# EAGLE library part 74*4040 (library 74xx-us)
IC 12STG BINARY COUNTER
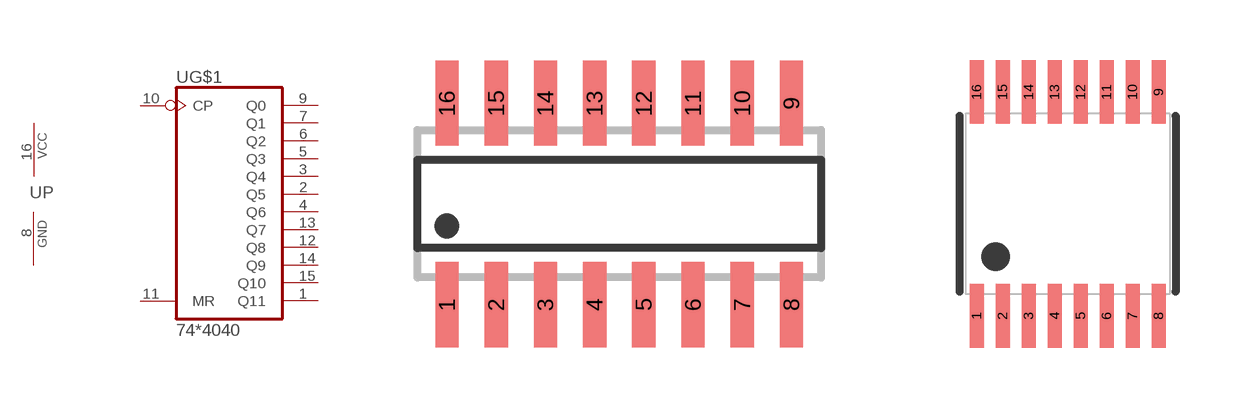
[diagram p330: symbol with the pads of SO16; footprints SO16, TSSOP16]

Designator prefix U; gates P=PWRN G$1=744040

## 744040D, 74HC4040D, 74HCT4040D  [SO16]
1  G$1:Q11  out
2  G$1:Q5  out
3  G$1:Q4  out
4  G$1:Q6  out
5  G$1:Q3  out
6  G$1:Q2  out
7  G$1:Q1  out
8  P:GND  pwr
9  G$1:Q0  out
10  G$1:CP  in
11  G$1:MR  in
12  G$1:Q8  out
13  G$1:Q7  out
14  G$1:Q9  out
15  G$1:Q10  out
16  P:VCC  pwr

## 744040PW, 74HC4040PW, 74HCT4040PW  [TSSOP16]
Pads as for SO16

## Footprint SO16 (pad centres in mm)
SMALL OUTLINE INTEGRATED CIRCUIT body 3.9 mm/JEDEC MS-012AC
smd 0.6 x 2.2: 1 -4.445,-2.6; 2 -3.175,-2.6; 3 -1.905,-2.6; 4 -0.635,-2.6; 5 0.635,-2.6; 6 1.905,-2.6; 7 3.175,-2.6; 8 4.445,-2.6; 9 4.445,2.6; 10 3.175,2.6; 11 1.905,2.6; 12 0.635,2.6; 13 -0.635,2.6; 14 -1.905,2.6; 15 -3.175,2.6; 16 -4.445,2.6

## Footprint TSSOP16 (pad centres in mm)
Thin Shrink Small Outline Plastic 16
smd 0.35 x 1.6: 1 -2.275,-2.8; 2 -1.625,-2.8; 3 -0.975,-2.8; 4 -0.325,-2.8; 5 0.325,-2.8; 6 0.975,-2.8; 7 1.625,-2.8; 8 2.275,-2.8; 9 2.275,2.8; 10 1.625,2.8; 11 0.975,2.8; 12 0.325,2.8; 13 -0.325,2.8; 14 -0.975,2.8; 15 -1.625,2.8; 16 -2.275,2.8